# EAGLE library part DB15F (library connect)
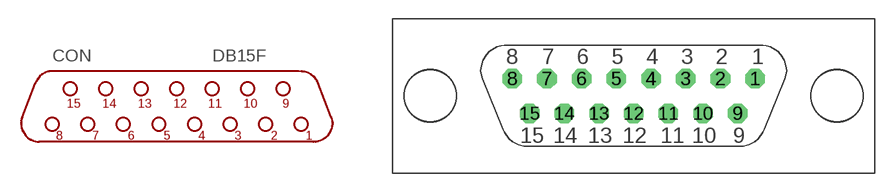
[diagram p4: symbol with the pads of D-15F; footprint D-15F]

Designator prefix CON

## DB15F  [D-15F]
1  1  pas
2  2  pas
3  3  pas
4  4  pas
5  5  pas
6  6  pas
7  7  pas
8  8  pas
9  9  pas
10  10  pas
11  11  pas
12  12  pas
13  13  pas
14  14  pas
15  15  pas

## Footprint D-15F (pad centres in mm)
drill 1.016 pad 1.575 octagon: 1 9.779,1.397; 2 6.985,1.397; 3 4.191,1.397; 4 1.397,1.397; 5 -1.397,1.397; 6 -4.191,1.397; 7 -6.985,1.397; 8 -9.779,1.397; 9 8.382,-1.397; 10 5.588,-1.397; 11 2.794,-1.397; 12 0,-1.397; 13 -2.794,-1.397; 14 -5.588,-1.397; 15 -8.382,-1.397
hole 4.115 at 16.383,0
hole 4.115 at -16.383,0